# Altium integrated library 0805L050WR.IntLib: 1 symbol
Pins are listed as number, name and electrical type; pins without a type are passive.

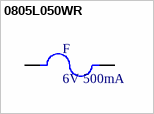
[diagram p0: symbol 0805L050WR]

## 0805L050WR
designator F, comment 6V 500mA
0805L050WR Cầu Chì Tự Phục Hồi 0805 6V 500mA; MP: MF-MSMF200-2; MF: Bourns; SnapEDA_Link: https://www.snapeda.com/parts/MF-MSMF200-2/Bourns/view-part/143366/?ref=snap; DigiKey-Purchase-URL: https://snapeda.com/shop?store=DigiKey&id=143366; Arrow_Electronics-Purchase-URL: https://snapeda.com/shop?store=Arrow+Electronics&id=143366; Availability: Good; Package: 1812 Bourns; Mouser-Purchase-URL: https://snapeda.com/shop?store=Mouser&id=143366; Price: None; Value: *
footprint PCBComponent_1
pins: 1, 2